# Altium integrated library keystone.IntLib: 2 symbols
Pins are listed as number, name and electrical type; pins without a type are passive.

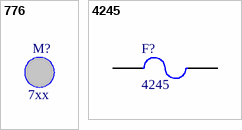
[diagram p0: symbols 776 to 4245]

## 776
designator M?, comment 7xx
Anti Vibration Mount-for.063"
footprint 769/770 (Anti Vibration Mount-for.125")
footprint 775/776 (Anti Vibration Mount-for.063")

## 4245
designator F?
Fuse holder
footprint 4245
pins: 1, 2